# Altium schematic symbol library FLS Data Formatter 8_14_2012.SCHLIB: 22 symbols
Pins are listed as number, name and electrical type; pins without a type are passive.

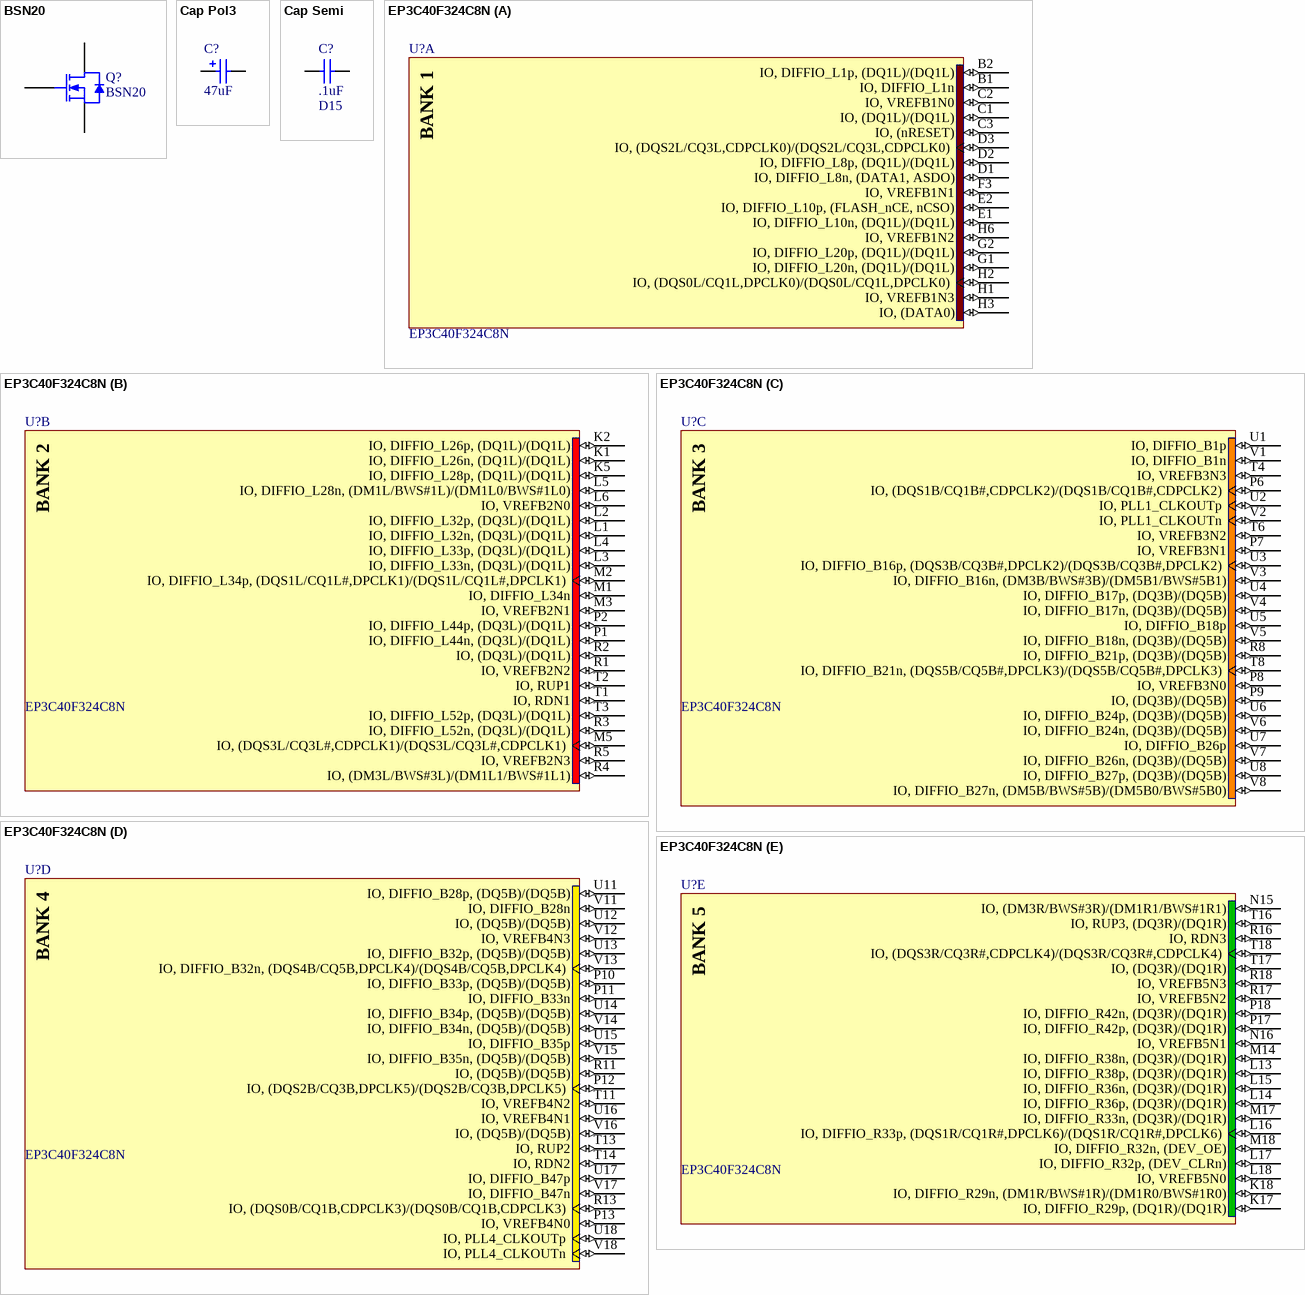
[diagram p0: symbols BSN20 to EP3C40F324C8N]

## BSN20
designator Q?
N-channel Enhancement Mode FET; Published: 17-Sep-2003; LatestRevisionDate: 12-Dec-2006; LatestRevisionNote: IPC-7351 Footprint Added.; DatasheetVersion: 26-Jun-2000; PackageVersion: May-1999; PackageReference: SOT23; Publisher: Altium Limited; PackageDescription: 3-Pin SOT-23 Package 0.95 mm Pitch, 2.3 mm Lead Span; ComponentLink1Description: Manufacturer Link; ComponentLink1URL: http://www.semiconductors.philips.com/; ComponentLink2Description: Datasheet; ComponentLink2URL: http://www.semiconductors.philips.com/acrobat/datasheets/BSN20-03.pdf
footprint SOT23_N (SOT23, 3-Leads, Body 2.9x1.3mm, Pitch 0.95mm, Lead Span 2.3mm, IPC Medium Density)
footprint SOT23_L (SOT23, 3-Leads, Body 2.9x1.3mm, Pitch 0.95mm, Lead Span 2.3mm, IPC High Density)
footprint SOT23_M (SOT23, 3-Leads, Body 2.9x1.3mm, Pitch 0.95mm, Lead Span 2.3mm, IPC Low Density)
simulation model BSN20 (SUBCKT)
footprint SOT23
pins: 1 G, 2 S, 3 D

## Cap Pol3
designator C?, comment value 47uF  (hidden comment: 100 uF)
Polarized Capacitor (Surface Mount); Description: CAP TANT 47UF 10V 10% 1411; Nichicon: F931A476KBA; Published: 8-Jun-2000; LatestRevisionDate: 29-May-2009; LatestRevisionNote: IPC-7351 Footprint Added.; PackageReference: TC3528-1411; Publisher: Altium Limited; PackageDescription: Chip Capacitor; Digi-Key: 493-4143-6-ND
footprint C0805 (Chip Capacitor, Body 2.0x1.3mm, IPC High Density)
footprint 1812 (Chip Capacitor, Body 4.5x3.2mm, IPC High Density)
footprint 1825 (Chip Capacitor, Body 4.5x6.4mm, IPC High Density)
footprint C2225 (Chip Capacitor, Body 5.7x6.4mm, IPC High Density)
footprint 2220 (Chip Capacitor, Body 5.7x5.0mm, IPC High Density)
simulation model CAP (Capacitor)
signal-integrity model Cap Pol
footprint TC3528-1411 (Capacitor, SM Tantalum; Body 3.5 x 2.8 mm (LxW typ))
pins: 1, 2
1 alternate drawing of the same symbol

## Cap Semi
designator C?, comment value .1uF  Ball: D15  (hidden comment: 0.1uF)
Capacitor (Semiconductor SIM Model); Description: CAP CER 0.1UF 25V Y5V 0805; Murata Electronics North America: GRM216F51E104ZA01D; Published: 8-Jun-2000; LatestRevisionDate: 29-May-2009; LatestRevisionNote: IPC-7351 Footprint Added.; PackageReference: 0805; Publisher: Altium Limited; PackageDescription: Chip Capacitor; Digi-Key: 490-1726-2-ND
simulation model CAP (Semiconductor Capacitor)
signal-integrity model Cap Semi
footprint 0402
footprint 0402-S
footprint 0402 slim-B
footprint 0402 slim
pins: 1, 2

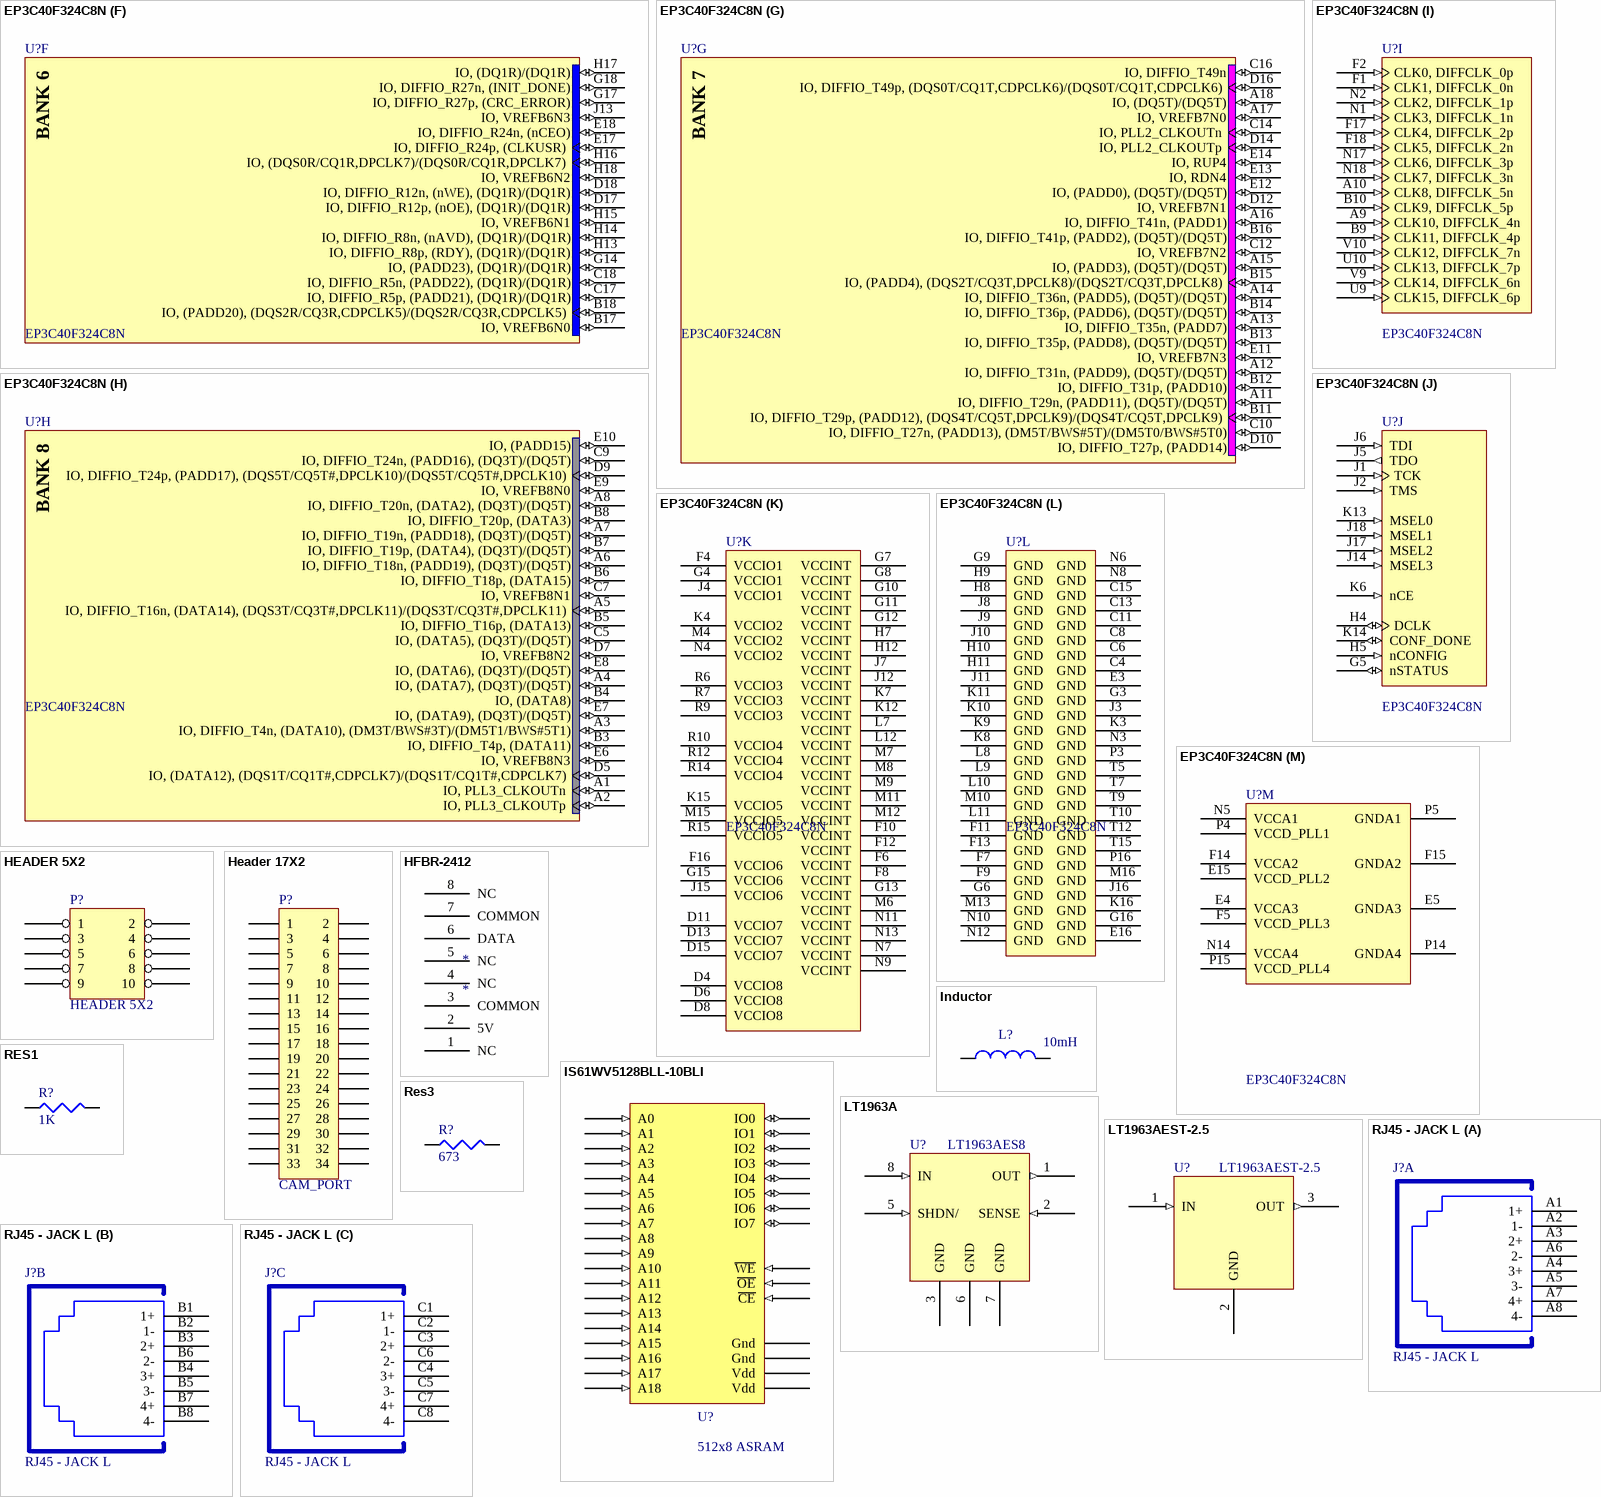
[diagram p1: symbols EP3C40F324C8N to RJ45 - JACK L]

## EP3C40F324C8N
designator U?
Cyclone III Family FPGA, 195 I/O Pins, 4 PLLs, 324-Pin FBGA, Speed Grade 8, Commercial Grade, Pb-Free; Published: 26-Feb-2007; DatasheetVersion: ver2.0, May-2008; PackageVersion: ver16.0, Dec-2009; PackageReference: FBGA324; Publisher: Altium Limited; PackageDescription: 324-Ball FineLine Ball Grid Array (FBGA324) - Wire Bond; Supplier 1: Digi-Key; Supplier Part Number 1: 544-2486-ND; Supplier 2: Farnell; Supplier Part Number 2: 1635070; Code_JEDEC: MS-034-AAG-1; Code_IPC: BGA100P18X18-324; ComponentLink1Description: Manufacturer Link; ComponentLink1URL: http://www.altera.com/; ComponentLink2Description: Handbook (7.86MB); ComponentLink2URL: http://www.altera.com/literature/hb/cyc3/cyclone3_handbook.pdf; ComponentLink3Description: Packaging Specification; ComponentLink3URL: http://www.altera.com/literature/ds/dspkg.pdf
footprint FBGA324 (BGA, 324-Leads, Body 19x19mm, Pitch 1mm)
3D model EP3C40-FBGA324 (324-Ball FineLine Ball Grid Array (FBGA324) - Wire Bond)
signal-integrity model EP3C40_F324 (Cyclone III)
part A pins: B1 IO, DIFFIO_L1n (io), B2 IO, DIFFIO_L1p, (DQ1L)/(DQ1L) (io), C1 IO, (DQ1L)/(DQ1L) (io), C2 IO, VREFB1N0 (io), C3 IO, (nRESET) (io), D1 IO, DIFFIO_L8n, (DATA1, ASDO) (io), D2 IO, DIFFIO_L8p, (DQ1L)/(DQ1L) (io), D3 IO, (DQS2L/CQ3L,CDPCLK0)/(DQS2L/CQ3L,CDPCLK0) (io), E1 IO, DIFFIO_L10n, (DQ1L)/(DQ1L) (io), E2 IO, DIFFIO_L10p, (FLASH_nCE, nCSO) (io), F3 IO, VREFB1N1 (io), G1 IO, DIFFIO_L20n, (DQ1L)/(DQ1L) (io), G2 IO, DIFFIO_L20p, (DQ1L)/(DQ1L) (io), H1 IO, VREFB1N3 (io), H2 IO, (DQS0L/CQ1L,DPCLK0)/(DQS0L/CQ1L,DPCLK0) (io), H3 IO, (DATA0) (io), H6 IO, VREFB1N2 (io)
part B pins: K1 IO, DIFFIO_L26n, (DQ1L)/(DQ1L) (io), K2 IO, DIFFIO_L26p, (DQ1L)/(DQ1L) (io), K5 IO, DIFFIO_L28p, (DQ1L)/(DQ1L) (io), L1 IO, DIFFIO_L32n, (DQ3L)/(DQ1L) (io), L2 IO, DIFFIO_L32p, (DQ3L)/(DQ1L) (io), L3 IO, DIFFIO_L33n, (DQ3L)/(DQ1L) (io), L4 IO, DIFFIO_L33p, (DQ3L)/(DQ1L) (io), L5 IO, DIFFIO_L28n, (DM1L/BWS#1L)/(DM1L0/BWS#1L0) (io), L6 IO, VREFB2N0 (io), M1 IO, DIFFIO_L34n (io), M2 IO, DIFFIO_L34p, (DQS1L/CQ1L#,DPCLK1)/(DQS1L/CQ1L#,DPCLK1) (io), M3 IO, VREFB2N1 (io), M5 IO, (DQS3L/CQ3L#,CDPCLK1)/(DQS3L/CQ3L#,CDPCLK1) (io), P1 IO, DIFFIO_L44n, (DQ3L)/(DQ1L) (io), P2 IO, DIFFIO_L44p, (DQ3L)/(DQ1L) (io), R1 IO, VREFB2N2 (io), R2 IO, (DQ3L)/(DQ1L) (io), R3 IO, DIFFIO_L52n, (DQ3L)/(DQ1L) (io), R4 IO, (DM3L/BWS#3L)/(DM1L1/BWS#1L1) (io), R5 IO, VREFB2N3 (io), T1 IO, RDN1 (io), T2 IO, RUP1 (io), T3 IO, DIFFIO_L52p, (DQ3L)/(DQ1L) (io)
part C pins: P6 IO, (DQS1B/CQ1B#,CDPCLK2)/(DQS1B/CQ1B#,CDPCLK2) (io), P7 IO, VREFB3N1 (io), P8 IO, VREFB3N0 (io), P9 IO, (DQ3B)/(DQ5B) (io), R8 IO, DIFFIO_B21p, (DQ3B)/(DQ5B) (io), T4 IO, VREFB3N3 (io), T6 IO, VREFB3N2 (io), T8 IO, DIFFIO_B21n, (DQS5B/CQ5B#,DPCLK3)/(DQS5B/CQ5B#,DPCLK3) (io), U1 IO, DIFFIO_B1p (io), U2 IO, PLL1_CLKOUTp (io), U3 IO, DIFFIO_B16p, (DQS3B/CQ3B#,DPCLK2)/(DQS3B/CQ3B#,DPCLK2) (io), U4 IO, DIFFIO_B17p, (DQ3B)/(DQ5B) (io), U5 IO, DIFFIO_B18p (io), U6 IO, DIFFIO_B24p, (DQ3B)/(DQ5B) (io), U7 IO, DIFFIO_B26p (io), U8 IO, DIFFIO_B27p, (DQ3B)/(DQ5B) (io), V1 IO, DIFFIO_B1n (io), V2 IO, PLL1_CLKOUTn (io), V3 IO, DIFFIO_B16n, (DM3B/BWS#3B)/(DM5B1/BWS#5B1) (io), V4 IO, DIFFIO_B17n, (DQ3B)/(DQ5B) (io), V5 IO, DIFFIO_B18n, (DQ3B)/(DQ5B) (io), V6 IO, DIFFIO_B24n, (DQ3B)/(DQ5B) (io), V7 IO, DIFFIO_B26n, (DQ3B)/(DQ5B) (io), V8 IO, DIFFIO_B27n, (DM5B/BWS#5B)/(DM5B0/BWS#5B0) (io)
part D pins: P10 IO, DIFFIO_B33p, (DQ5B)/(DQ5B) (io), P11 IO, DIFFIO_B33n (io), P12 IO, (DQS2B/CQ3B,DPCLK5)/(DQS2B/CQ3B,DPCLK5) (io), P13 IO, VREFB4N0 (io), R11 IO, (DQ5B)/(DQ5B) (io), R13 IO, (DQS0B/CQ1B,CDPCLK3)/(DQS0B/CQ1B,CDPCLK3) (io), T11 IO, VREFB4N2 (io), T13 IO, RUP2 (io), T14 IO, RDN2 (io), U11 IO, DIFFIO_B28p, (DQ5B)/(DQ5B) (io), U12 IO, (DQ5B)/(DQ5B) (io), U13 IO, DIFFIO_B32p, (DQ5B)/(DQ5B) (io), U14 IO, DIFFIO_B34p, (DQ5B)/(DQ5B) (io), U15 IO, DIFFIO_B35p (io), U16 IO, VREFB4N1 (io), U17 IO, DIFFIO_B47p (io), U18 IO, PLL4_CLKOUTp (io), V11 IO, DIFFIO_B28n (io), V12 IO, VREFB4N3 (io), V13 IO, DIFFIO_B32n, (DQS4B/CQ5B,DPCLK4)/(DQS4B/CQ5B,DPCLK4) (io), V14 IO, DIFFIO_B34n, (DQ5B)/(DQ5B) (io), V15 IO, DIFFIO_B35n, (DQ5B)/(DQ5B) (io), V16 IO, (DQ5B)/(DQ5B) (io), V17 IO, DIFFIO_B47n (io), V18 IO, PLL4_CLKOUTn (io)
part E pins: K17 IO, DIFFIO_R29p, (DQ1R)/(DQ1R) (io), K18 IO, DIFFIO_R29n, (DM1R/BWS#1R)/(DM1R0/BWS#1R0) (io), L13 IO, DIFFIO_R38p, (DQ3R)/(DQ1R) (io), L14 IO, DIFFIO_R36p, (DQ3R)/(DQ1R) (io), L15 IO, DIFFIO_R36n, (DQ3R)/(DQ1R) (io), L16 IO, DIFFIO_R33p, (DQS1R/CQ1R#,DPCLK6)/(DQS1R/CQ1R#,DPCLK6) (io), L17 IO, DIFFIO_R32p, (DEV_CLRn) (io), L18 IO, VREFB5N0 (io), M14 IO, DIFFIO_R38n, (DQ3R)/(DQ1R) (io), M17 IO, DIFFIO_R33n, (DQ3R)/(DQ1R) (io), M18 IO, DIFFIO_R32n, (DEV_OE) (io), N15 IO, (DM3R/BWS#3R)/(DM1R1/BWS#1R1) (io), N16 IO, VREFB5N1 (io), P17 IO, DIFFIO_R42p, (DQ3R)/(DQ1R) (io), P18 IO, DIFFIO_R42n, (DQ3R)/(DQ1R) (io), R16 IO, RDN3 (io), R17 IO, VREFB5N2 (io), R18 IO, VREFB5N3 (io), T16 IO, RUP3, (DQ3R)/(DQ1R) (io), T17 IO, (DQ3R)/(DQ1R) (io), T18 IO, (DQS3R/CQ3R#,CDPCLK4)/(DQS3R/CQ3R#,CDPCLK4) (io)
part F pins: B17 IO, VREFB6N0 (io), B18 IO, (PADD20), (DQS2R/CQ3R,CDPCLK5)/(DQS2R/CQ3R,CDPCLK5) (io), C17 IO, DIFFIO_R5p, (PADD21), (DQ1R)/(DQ1R) (io), C18 IO, DIFFIO_R5n, (PADD22), (DQ1R)/(DQ1R) (io), D17 IO, DIFFIO_R12p, (nOE), (DQ1R)/(DQ1R) (io), D18 IO, DIFFIO_R12n, (nWE), (DQ1R)/(DQ1R) (io), E17 IO, DIFFIO_R24p, (CLKUSR) (io), E18 IO, DIFFIO_R24n, (nCEO) (io), G14 IO, (PADD23), (DQ1R)/(DQ1R) (io), G17 IO, DIFFIO_R27p, (CRC_ERROR) (io), G18 IO, DIFFIO_R27n, (INIT_DONE) (io), H13 IO, DIFFIO_R8p, (RDY), (DQ1R)/(DQ1R) (io), H14 IO, DIFFIO_R8n, (nAVD), (DQ1R)/(DQ1R) (io), H15 IO, VREFB6N1 (io), H16 IO, (DQS0R/CQ1R,DPCLK7)/(DQS0R/CQ1R,DPCLK7) (io), H17 IO, (DQ1R)/(DQ1R) (io), H18 IO, VREFB6N2 (io), J13 IO, VREFB6N3 (io)
part G pins: A11 IO, DIFFIO_T29n, (PADD11), (DQ5T)/(DQ5T) (io), A12 IO, DIFFIO_T31n, (PADD9), (DQ5T)/(DQ5T) (io), A13 IO, DIFFIO_T35n, (PADD7) (io), A14 IO, DIFFIO_T36n, (PADD5), (DQ5T)/(DQ5T) (io), A15 IO, (PADD3), (DQ5T)/(DQ5T) (io), A16 IO, DIFFIO_T41n, (PADD1) (io), A17 IO, VREFB7N0 (io), A18 IO, (DQ5T)/(DQ5T) (io), B11 IO, DIFFIO_T29p, (PADD12), (DQS4T/CQ5T,DPCLK9)/(DQS4T/CQ5T,DPCLK9) (io), B12 IO, DIFFIO_T31p, (PADD10) (io), B13 IO, DIFFIO_T35p, (PADD8), (DQ5T)/(DQ5T) (io), B14 IO, DIFFIO_T36p, (PADD6), (DQ5T)/(DQ5T) (io), B15 IO, (PADD4), (DQS2T/CQ3T,DPCLK8)/(DQS2T/CQ3T,DPCLK8) (io), B16 IO, DIFFIO_T41p, (PADD2), (DQ5T)/(DQ5T) (io), C10 IO, DIFFIO_T27n, (PADD13), (DM5T/BWS#5T)/(DM5T0/BWS#5T0) (io), C12 IO, VREFB7N2 (io), C14 IO, PLL2_CLKOUTn (io), C16 IO, DIFFIO_T49n (io), D10 IO, DIFFIO_T27p, (PADD14) (io), D12 IO, VREFB7N1 (io), D14 IO, PLL2_CLKOUTp (io), D16 IO, DIFFIO_T49p, (DQS0T/CQ1T,CDPCLK6)/(DQS0T/CQ1T,CDPCLK6) (io), E11 IO, VREFB7N3 (io), E12 IO, (PADD0), (DQ5T)/(DQ5T) (io), E13 IO, RDN4 (io), E14 IO, RUP4 (io)
part H pins: A1 IO, PLL3_CLKOUTn (io), A2 IO, PLL3_CLKOUTp (io), A3 IO, DIFFIO_T4n, (DATA10), (DM3T/BWS#3T)/(DM5T1/BWS#5T1) (io), A4 IO, (DATA7), (DQ3T)/(DQ5T) (io), A5 IO, DIFFIO_T16n, (DATA14), (DQS3T/CQ3T#,DPCLK11)/(DQS3T/CQ3T#,DPCLK11) (io), A6 IO, DIFFIO_T18n, (PADD19), (DQ3T)/(DQ5T) (io), A7 IO, DIFFIO_T19n, (PADD18), (DQ3T)/(DQ5T) (io), A8 IO, DIFFIO_T20n, (DATA2), (DQ3T)/(DQ5T) (io), B3 IO, DIFFIO_T4p, (DATA11) (io), B4 IO, (DATA8) (io), B5 IO, DIFFIO_T16p, (DATA13) (io), B6 IO, DIFFIO_T18p, (DATA15) (io), B7 IO, DIFFIO_T19p, (DATA4), (DQ3T)/(DQ5T) (io), B8 IO, DIFFIO_T20p, (DATA3) (io), C5 IO, (DATA5), (DQ3T)/(DQ5T) (io), C7 IO, VREFB8N1 (io), C9 IO, DIFFIO_T24n, (PADD16), (DQ3T)/(DQ5T) (io), D5 IO, (DATA12), (DQS1T/CQ1T#,CDPCLK7)/(DQS1T/CQ1T#,CDPCLK7) (io), D7 IO, VREFB8N2 (io), D9 IO, DIFFIO_T24p, (PADD17), (DQS5T/CQ5T#,DPCLK10)/(DQS5T/CQ5T#,DPCLK10) (io), E6 IO, VREFB8N3 (io), E7 IO, (DATA9), (DQ3T)/(DQ5T) (io), E8 IO, (DATA6), (DQ3T)/(DQ5T) (io), E9 IO, VREFB8N0 (io), E10 IO, (PADD15) (io)
part I pins: A9 CLK10, DIFFCLK_4n (in), A10 CLK8, DIFFCLK_5n (in), B9 CLK11, DIFFCLK_4p (in), B10 CLK9, DIFFCLK_5p (in), F1 CLK1, DIFFCLK_0n (in), F2 CLK0, DIFFCLK_0p (in), F17 CLK4, DIFFCLK_2p (in), F18 CLK5, DIFFCLK_2n (in), N1 CLK3, DIFFCLK_1n (in), N2 CLK2, DIFFCLK_1p (in), N17 CLK6, DIFFCLK_3p (in), N18 CLK7, DIFFCLK_3n (in), U9 CLK15, DIFFCLK_6p (in), U10 CLK13, DIFFCLK_7p (in), V9 CLK14, DIFFCLK_6n (in), V10 CLK12, DIFFCLK_7n (in)
part J pins: G5 nSTATUS (io), H4 DCLK (io), H5 nCONFIG (in), J1 TCK (in), J2 TMS (in), J5 TDO (out), J6 TDI (in), J14 MSEL3 (in), J17 MSEL2 (in), J18 MSEL1 (in), K6 nCE (in), K13 MSEL0 (in), K14 CONF_DONE (io)
part K pins: D4 VCCIO8 (power), D6 VCCIO8 (power), D8 VCCIO8 (power), D11 VCCIO7 (power), D13 VCCIO7 (power), D15 VCCIO7 (power), F4 VCCIO1 (power), F6 VCCINT (power), F8 VCCINT (power), F10 VCCINT (power), F12 VCCINT (power), F16 VCCIO6 (power), G4 VCCIO1 (power), G7 VCCINT (power), G8 VCCINT (power), G10 VCCINT (power), G11 VCCINT (power), G12 VCCINT (power), G13 VCCINT (power), G15 VCCIO6 (power), H7 VCCINT (power), H12 VCCINT (power), J4 VCCIO1 (power), J7 VCCINT (power), J12 VCCINT (power), J15 VCCIO6 (power), K4 VCCIO2 (power), K7 VCCINT (power), K12 VCCINT (power), K15 VCCIO5 (power), L7 VCCINT (power), L12 VCCINT (power), M4 VCCIO2 (power), M6 VCCINT (power), M7 VCCINT (power), M8 VCCINT (power), M9 VCCINT (power), M11 VCCINT (power), M12 VCCINT (power), M15 VCCIO5 (power), N4 VCCIO2 (power), N7 VCCINT (power), N9 VCCINT (power), N11 VCCINT (power), N13 VCCINT (power), R6 VCCIO3 (power), R7 VCCIO3 (power), R9 VCCIO3 (power), R10 VCCIO4 (power), R12 VCCIO4 (power), R14 VCCIO4 (power), R15 VCCIO5 (power)
part L pins: C4 GND (power), C6 GND (power), C8 GND (power), C11 GND (power), C13 GND (power), C15 GND (power), E3 GND (power), E16 GND (power), F7 GND (power), F9 GND (power), F11 GND (power), F13 GND (power), G3 GND (power), G6 GND (power), G9 GND (power), G16 GND (power), H8 GND (power), H9 GND (power), H10 GND (power), H11 GND (power), J3 GND (power), J8 GND (power), J9 GND (power), J10 GND (power), J11 GND (power), J16 GND (power), K3 GND (power), K8 GND (power), K9 GND (power), K10 GND (power), K11 GND (power), K16 GND (power), L8 GND (power), L9 GND (power), L10 GND (power), L11 GND (power), M10 GND (power), M13 GND (power), M16 GND (power), N3 GND (power), N6 GND (power), N8 GND (power), N10 GND (power), N12 GND (power), P3 GND (power), P16 GND (power), T5 GND (power), T7 GND (power), T9 GND (power), T10 GND (power), T12 GND (power), T15 GND (power)
part M pins: E4 VCCA3 (power), E5 GNDA3 (power), E15 VCCD_PLL2 (power), F5 VCCD_PLL3 (power), F14 VCCA2 (power), F15 GNDA2 (power), N5 VCCA1 (power), N14 VCCA4 (power), P4 VCCD_PLL1 (power), P5 GNDA1 (power), P14 GNDA4 (power), P15 VCCD_PLL4 (power)
part A text: BANK 1
part B text: BANK 2
part C text: BANK 3
part D text: BANK 4
part E text: BANK 5
part F text: BANK 6
part G text: BANK 7
part H text: BANK 8

## HEADER 5X2
designator P?
Part Field 1: 1; Part Field 10: 1u; Part Field 2: 0; Part Field 3: 0; Part Field 4: 0; Part Field 5: 1; Part Field 6: 1K; Part Field 7: 1n; Part Field 8: 1n; Part Field 9: 500n
footprint HDR2X5
footprint CON34_.05X.05
pins: 1, 2, 3, 4, 5, 6, 7, 8, 9, 10

## Header 17X2
designator P?, comment CAM_PORT
Header, 17-Pin, Dual row; LatestRevisionDate: 17-Jul-2002; LatestRevisionNote: Re-released for DXP Platform.; Publisher: Altium Limited
footprint HDR2X17 (Connector; Header; 17x2 Position)
signal-integrity model Connector
footprint CON34_.05X.05
footprint HDR2X5
pins: 1, 2, 3, 4, 5, 6, 7, 8, 9, 10, 11, 12, 13, 14, 15, 16, 17, 18, 19, 20, 21, 22, 23, 24, 25, 26, 27, 28, 29, 30, 31, 32, 33, 34

## HFBR-2412
designator *
footprint HFBR-2412Z (Fiber Receiver)
pins: 1 NC, 2 5V, 3 COMMON, 4 NC, 5 NC, 6 DATA, 7 COMMON, 8 NC

## Inductor
designator L?  value 10mH  (hidden comment: Inductor)
Code_IEC: 1005; Published: 8-Jun-2000; LatestRevisionDate: 29-May-2009; LatestRevisionNote: IPC-7351 Footprint Added.; PackageReference: 0402-A; Publisher: Altium Limited; PackageDescription: Chip Inductor; Code_JEITA: 0402
footprint 0402-A (Chip Inductor, Body 1.0x0.5mm, IPC High Density)
footprint INDC1608L (Chip Inductor, Body 1.6x0.8mm, IPC High Density)
footprint 2029 (Chip Inductor, Body 2.0x1.2mm, IPC High Density)
footprint 0603 (Chip Inductor, Body 0.6x0.3mm, IPC High Density)
footprint INDC3216 (Chip Inductor, Body 3.2x1.6mm, IPC High Density)
footprint INDC4532 (Chip Inductor, Body 4.5x3.2mm, IPC High Density)
simulation model INDUCTOR (Inductor)
signal-integrity model Inductor
footprint 0805
pins: 1, 2

## IS61WV5128BLL-10BLI
designator U?, comment 512x8 ASRAM
4M 100MHz asynchronous SRAM
footprint TF-BGA
pins: A1 A0 (in) "Address", A2 A1 (in) "Address", A4 A3 (in) "Address", A5 A6 (in) "Address", A6 A8 (in) "Address", B1 IO4 (io) "Data", B2 A2 (in) "Address", B3 ~{WE} (in) "Control", B4 A4 (in) "Address", B5 A7 (in) "Address", B6 IO0 (io) "Data", C1 IO5 (io) "Data", C4 A5 (in) "Address", C6 IO1 (io) "Data", D1 Gnd (power) "Power", D6 Vdd (power) "Power", E1 Vdd (power) "Power", E6 Gnd (power) "Power", F1 IO6 (io) "Data", F3 A18 (in) "Address", F4 A17 (in) "Address", F6 IO2 (io) "Data", G1 IO7 (io) "Data", G2 ~{OE} (in) "Control", G3 ~{CE} (in) "Control", G4 A16 (in) "Address", G5 A15 (in) "Address", G6 IO3 (io) "Data", H1 A9 (in) "Address", H2 A10 (in) "Address", H3 A11 (in) "Address", H4 A12 (in) "Address", H5 A13 (in) "Address", H6 A14 (in) "Address"

## LT1963A
designator U?, comment LT1963AES8
footprint SOT-223 LT1963A
footprint SO8_L (SOIC, 8-Leads, Body 4.9x3.9mm, Pitch 1.27mm, IPC High Density)
pins: 1 OUT (out), 2 SENSE (in), 3 GND (power), 4 NC hidden, 5 SHDN/ (in), 6 GND (power), 7 GND (power), 8 IN (in)

## LT1963AEST-2.5
designator U?
footprint SOT-223 LT1963A
pins: 1 IN (in), 2 GND (power), 3 OUT (out)

## RES1
designator R?, comment 1K
footprint 0402
footprint 0402-S
footprint 0402 slim
footprint J1-0603
footprint 0805
pins: 1, 2

## Res3
designator R?, comment 673
Resistor; Description: Metal Film Resistors - Through Hole 1/8watt 673ohms .1% 10ppm; Vishay/Dale: PTF56673R00BYEK; Published: 8-Jun-2000; LatestRevisionDate: 29-May-2009; LatestRevisionNote: IPC-7351 Footprint Added.; PackageReference: J1-0603; Publisher: Altium Limited; PackageDescription: 6.35MM AXIAL; Metal Film ResistMOUSER: 71-PTF56673R00BYEK; Value: 673
footprint J1-0603 (Chip Resistor, Body 1.6x0.8mm, IPC High Density)
footprint 14-1210 (Chip Resistor, Body 3.2x2.5mm, IPC High Density)
footprint 12Z-2010 (Chip Resistor, Body 5.0x2.5mm, IPC High Density)
footprint RESC6332 (Chip Resistor, Body 6.3x3.2mm, IPC High Density)
simulation model RESISTOR (Resistor)
signal-integrity model Res
pins: 1, 2

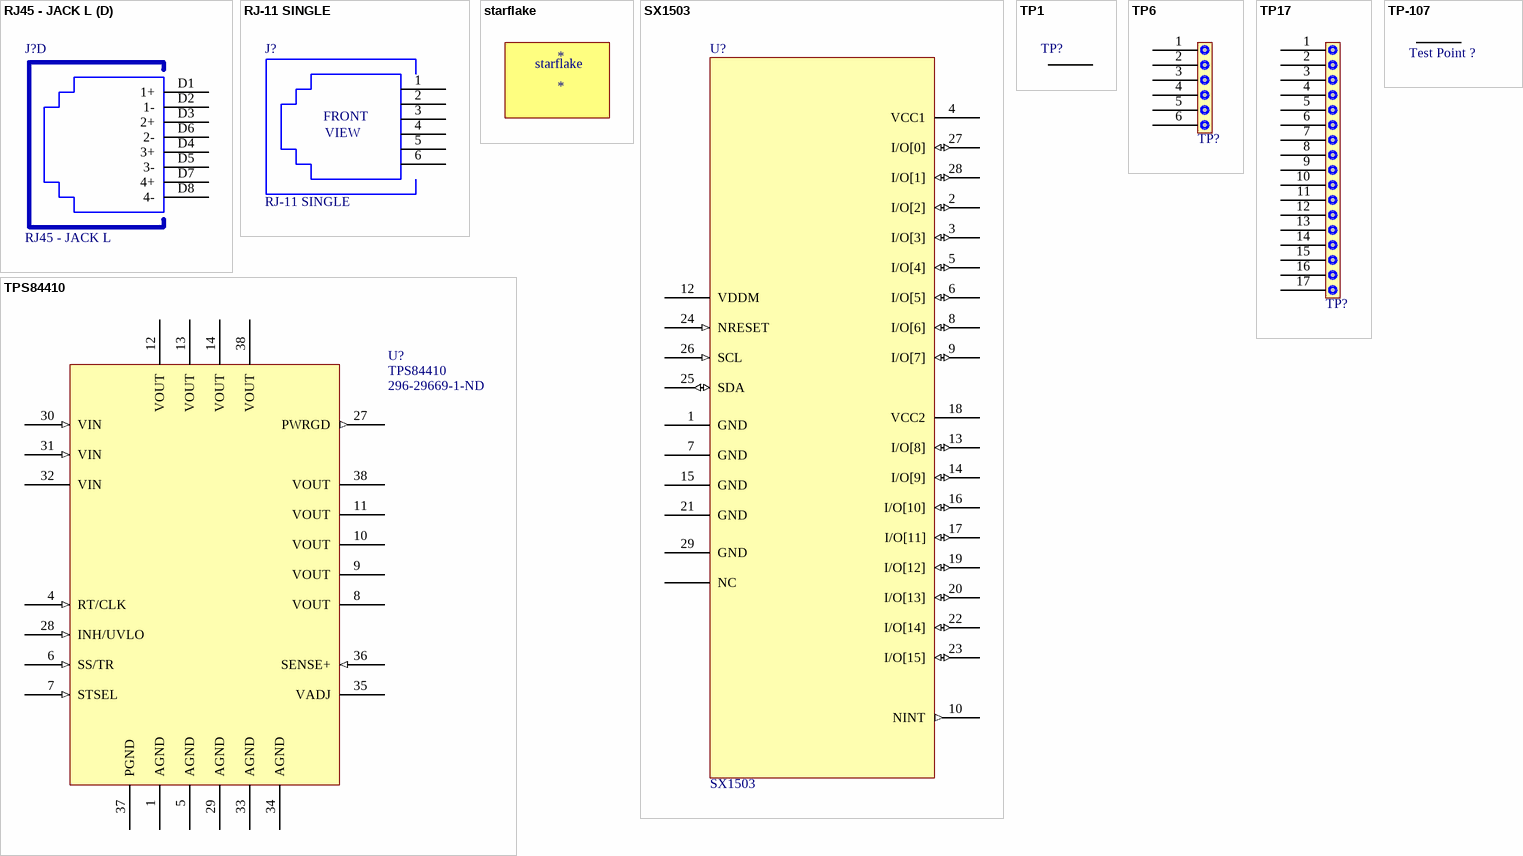
[diagram p2: symbols RJ45 - JACK L to TPS84410]

## RJ45 - JACK L
designator J?
Manufacturer: TE Connectivity; Manufactuer Part Number: 5558503-1; Description: CONN MOD JACK 4PORT5 8-8 SHLD PCB; Number of Positions/Contacts: 8p8c (RJ45, Ethernet); Digi-Key Part Number: A31470-ND
footprint 5558503-1 Quad RJ45 Jack
part A pins: A1 1+, A2 1-, A3 2+, A4 3+, A5 3-, A6 2-, A7 4+, A8 4-
part B pins: B1 1+, B2 1-, B3 2+, B4 3+, B5 3-, B6 2-, B7 4+, B8 4-
part C pins: C1 1+, C2 1-, C3 2+, C4 3+, C5 3-, C6 2-, C7 4+, C8 4-
part D pins: D1 1+, D2 1-, D3 2+, D4 3+, D5 3-, D6 2-, D7 4+, D8 4-

## RJ-11 SINGLE
designator J?
RJ-11 JACK
footprint JACK1.02-2H6B (Connector; PCB Jack, Thru-Hole; 1-Port, 8 Positions, 6 Loaded; Unshielded without Lightpipes; Right Angle)
footprint RJ11 - 5555140-1
pins: 1 RX+, 2 RX-, 3 TX+, 4, 5, 6 TX-
text: FRONT; VIEW

## starflake
designator *
footprint STARFLAKE

## SX1503
designator U?
i2C LV GPIO
footprint QFN-UT28
pins: 1 GND (power), 2 I/O[2] (io), 3 I/O[3] (io), 4 VCC1 (power), 5 I/O[4] (io), 6 I/O[5] (io), 7 GND (power), 8 I/O[6] (io), 9 I/O[7] (io), 10 NINT (out), 11 NC "Test Point", 12 VDDM (power), 13 I/O[8] (io), 14 I/O[9] (io), 15 GND (power), 16 I/O[10] (io), 17 I/O[11] (io), 18 VCC2 (power), 19 I/O[12] (io), 20 I/O[13] (io), 21 GND (power), 22 I/O[14] (io), 23 I/O[15] (io), 24 NRESET (in), 25 SDA (io), 26 SCL (in), 27 I/O[0] (io), 28 I/O[1] (io), 29 GND (power)

## TP1
designator TP?  (value not drawn)
footprint TP1 (Male Stand-off)
pins: 1 TP "Test Point"

## TP6
designator TP?  (value not drawn)
footprint TP6 (Test Point 6)
pins: 1 (power), 2 (power), 3 (power), 4 (power), 5 (power), 6 (power)

## TP17
designator TP?  (value not drawn)
Test Point
footprint TP17 (Test Point 17)
pins: 1 (power), 2 (power), 3 (power), 4 (power), 5 (power), 6 (power), 7 (power), 8 (power), 9 (power), 10 (power), 11 (power), 12 (power), 13 (power), 14 (power), 15 (power), 16 (power), 17 (power)

## TP-107
designator Test Point ?  (value not drawn)
footprint TP-107
pins: 1 "Test Point"

## TPS84410
designator U?  Supplier Part Number 1: 296-29669-1-ND
Supplier 1: Digi-Key
footprint QFN-N39 (TI TPS84410 Voltage Regulator)
pins: 1 AGND (power), 4 RT/CLK (in), 5 AGND (power), 6 SS/TR (in), 7 STSEL (in), 8 VOUT (power), 9 VOUT (power), 10 VOUT (power), 11 VOUT (power), 12 VOUT (power), 13 VOUT (power), 14 VOUT (power), 27 PWRGD (out), 28 INH/UVLO (in), 29 AGND (power), 30 VIN (in), 31 VIN (in), 32 VIN (power), 33 AGND (power), 34 AGND (power), 35 VADJ, 36 SENSE+ (in), 37 PGND (power), 38 VOUT (power), 38 VOUT (power)